# Altium schematic symbol library chw_2020.SchLib: 3 symbols
Pins are listed as number, name and electrical type; pins without a type are passive.

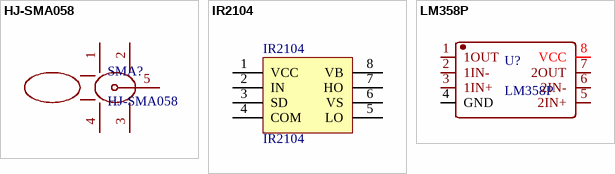
[diagram p0: symbols HJ-SMA058 to LM358P]

## HJ-SMA058
designator SMA?
pins: 1, 2, 3, 4, 5

## IR2104
designator IR2104
footprint IR2104
pins: 1 VCC, 2 IN, 3 SD, 4 COM, 5 LO, 6 VS, 7 HO, 8 VB

## LM358P
designator U?
pins: 1 1OUT, 2 1IN-, 3 1IN+, 4 GND, 5 2IN+, 6 2IN-, 7 2OUT, 8 VCC